# Altium footprint library final_design.PcbLib: 9 footprints
Each footprint in its own frame and in the unit in brackets; x right, y up, seen from the top. Pads: shape width x height; smd on the part's side, far side on the other; paste and mask are expansions set on the pad; w line width, h text height; cw(c..) or ccw(c..) is an arc to the next point about the centre after c.
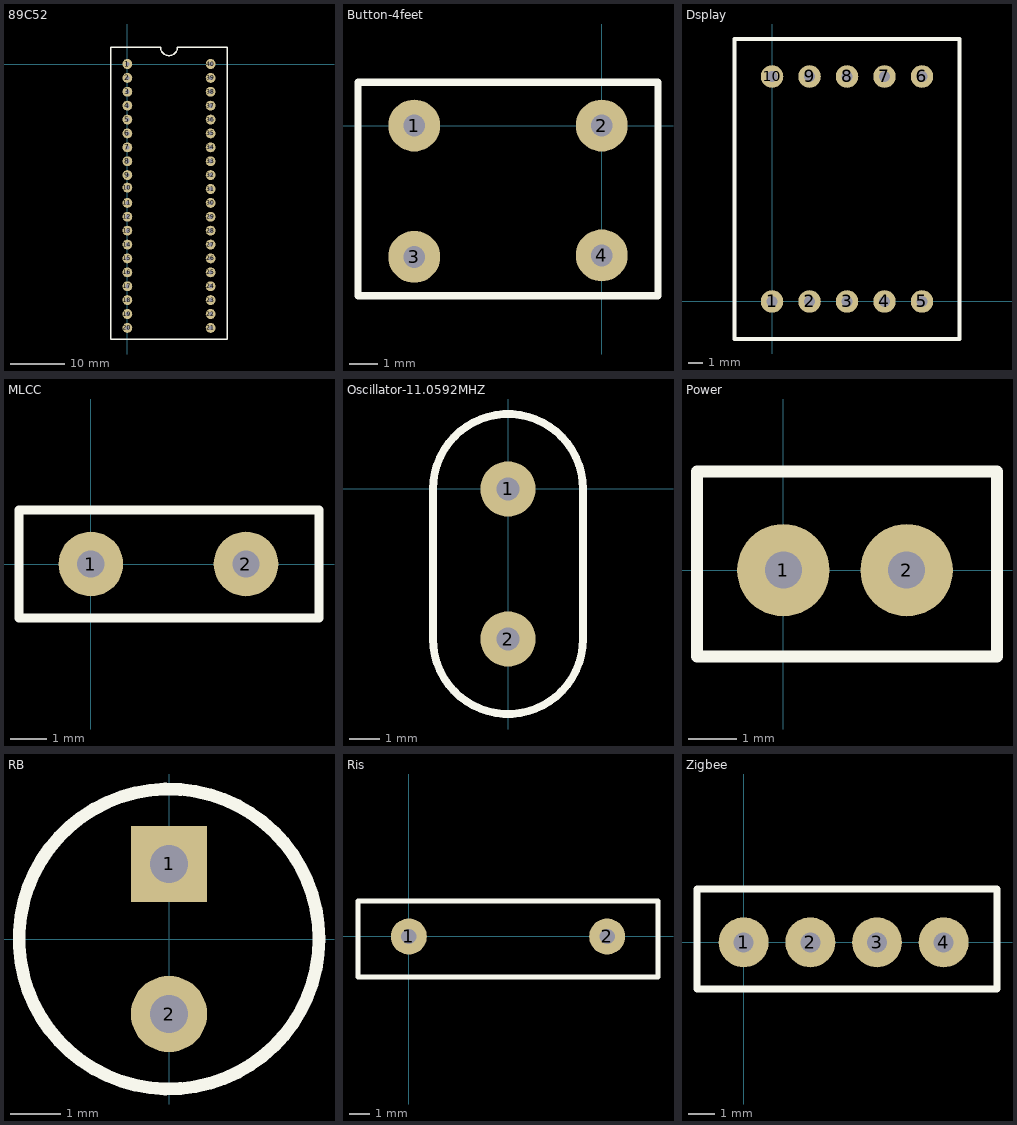
[diagram p0: the footprints below, top view; thin cyan lines are the x and y axes]

## 89C52 [mm]
pads (40):
  round 1.8 hole 0.762: 1(0,0) 2(0,-2.54) 3(0,-5.08) 4(0,-7.62) 5(0,-10.16) 6(0,-12.7) 7(0,-15.24) 8(0,-17.78) 9(0,-20.32) 10(0,-22.606) 11(0,-25.4) 12(0,-27.94) 13(0,-30.48) 14(0,-33.02) 15(0,-35.56) 16(0,-38.1) 17(0,-40.64) 18(0,-43.18) 19(0,-45.72) 20(0,-48.26) 21(15.24,-48.26) 22(15.24,-45.72) 23(15.24,-43.18) 24(15.24,-40.64) 25(15.24,-38.1) 26(15.24,-35.56) 27(15.24,-33.02) 28(15.24,-30.48) 29(15.24,-27.94) 30(15.24,-25.4) 31(15.24,-22.86) 32(15.24,-20.32) 33(15.24,-17.78) 34(15.24,-15.24) 35(15.24,-12.7) 36(15.24,-10.16) 37(15.24,-7.62) 38(15.24,-5.08) 39(15.24,-2.54) 40(15.24,0)
Top Overlay:
  lines w0.254: -3.048,-50.292 -3.048,3.048 6.096,3.048 ccw(c7.62,3.048) 9.144,3.048 18.288,3.048 18.288,-50.292 -3.048,-50.292

## Button-4feet [mm]
pads (4):
  round 1.8 hole 0.762: 1(-6.5,0) 2(0,0) 3(-6.5,-4.55) 4(0,-4.5)
Top Overlay:
  lines w0.254: -8.45,-5.9 -5.725,-5.9 0.075,-5.9 1.95,-5.9 1.95,1.5 -8.45,1.5 -8.45,-4.95 -8.45,-5.85

## Dsplay [mil]
pads (10):
  round 60 hole 30: 1(0,0) 2(100,0) 3(200,0) 4(300,0) 5(400,0) 6(400,600) 7(300,600) 8(200,600) 9(100,600) 10(0,600)
Top Overlay:
  lines w10: -100,-100 500,-100 500,700 -100,700 -100,-100

## MLCC [mm]
pads (2):
  round 1.8 hole 0.762: 1(0,0) 2(4.318,0)
Top Overlay:
  lines w0.254: -2,-1.5 -2,1.5 6.35,1.5 6.35,-1.5 -2,-1.5

## Oscillator-11.0592MHZ [mm]
pads (2):
  round 1.8 hole 0.762: 1(0,0) 2(0,-4.88)
Top Overlay:
  lines w0.254: -2.44,-4.88 ccw(c0,-4.88) 2.44,-4.88 2.44,0 ccw(c0,0) -2.44,0 -2.44,-4.88

## Power [mm]
pads (2):
  round 1.9 hole 0.762: 1(0,0) 2(2.54,0)
Top Overlay:
  lines w0.254: -1.778,1.016 -1.778,2.032 4.4,2.032 4.4,-1.778 -1.778,-1.778 -1.778,1.27

## RB [mil]
pads (2):
  rect 60x60 hole 30: 1(0,59.06)
  round 60 hole 30: 2(0,-59.06)
Top Overlay:
  circle w10: c0,0 r118.11

## Ris [mm]
pads (2):
  round 1.8 hole 0.762: 1(0,0) 2(9.906,0)
Top Overlay:
  lines w0.254: -2.54,-2.032 12.446,-2.032 12.446,1.778 -2.54,1.778 -2.54,1.524 -2.54,-2.032

## Zigbee [mm]
pads (4):
  round 1.9 hole 0.762: 1(0,0) 2(2.54,0) 3(5.08,0) 4(7.62,0)
Top Overlay:
  lines w0.254: -1.778,1.016 -1.778,2.032 9.652,2.032 9.652,-1.778 -1.778,-1.778 -1.778,1.27